# EAGLE library part BGA7210 (library nxp_60_1_1)
700 MHz to 3800 MHz high linearity variable gain amplifier
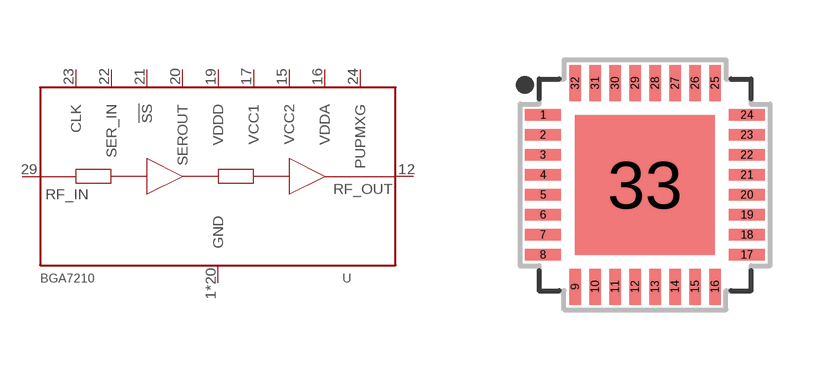
[diagram p67: symbol with the pads of SOT617-3; footprint SOT617-3]

Designator prefix -

## BGA7210  [SOT617-3]
1  GND  pwr
2  GND  pwr
3  GND  pwr
4  GND  pwr
5  GND  pwr
6  GND  pwr
7  GND  pwr
8  GND  pwr
9  GND  pwr
10  GND  pwr
12  RF_OUT  out
13  GND  pwr
14  GND  pwr
15  VCC2  pwr
16  VDDA  pwr
17  VCC1  pwr
18  GND  pwr
19  VDDD  pwr
20  SEROUT  out
21  !SS!  in
22  SER_IN  in
23  CLK  in
24  PUPMXG  in
25  GND  pwr
26  GND  pwr
27  GND  pwr
28  GND  pwr
29  RF_IN  in
31  GND  pwr
32  GND  pwr
33  GND  pwr

## Footprint SOT617-3 (pad centres in mm)
SOT617-3 HVQFN32: plastic thermal enhanced very thin quad flat package; no leads; 32 terminals; body 5 x 5 x 0.85 mm JEDEC: MO-220 IEC: -- JEITA: --
smd 0.9 x 0.29: 1 -2.55,1.75; 2 -2.55,1.25; 3 -2.55,0.75; 4 -2.55,0.25; 5 -2.55,-0.25; 6 -2.55,-0.75; 7 -2.55,-1.25; 8 -2.55,-1.75; 17 2.55,-1.75; 18 2.55,-1.25; 19 2.55,-0.75; 20 2.55,-0.25; 21 2.55,0.25; 22 2.55,0.75; 23 2.55,1.25; 24 2.55,1.75
smd 0.29 x 0.9: 9 -1.75,-2.55; 10 -1.25,-2.55; 11 -0.75,-2.55; 12 -0.25,-2.55; 13 0.25,-2.55; 14 0.75,-2.55; 15 1.25,-2.55; 16 1.75,-2.55; 25 1.75,2.55; 26 1.25,2.55; 27 0.75,2.55; 28 0.25,2.55; 29 -0.25,2.55; 30 -0.75,2.55; 31 -1.25,2.55; 32 -1.75,2.55
smd 3.5 x 3.5: 33 0,0